# Altium integrated library Linear Technology Power Management System Supervisor, Monitor and Control.IntLib: 1611 symbols (part 68 of 100)
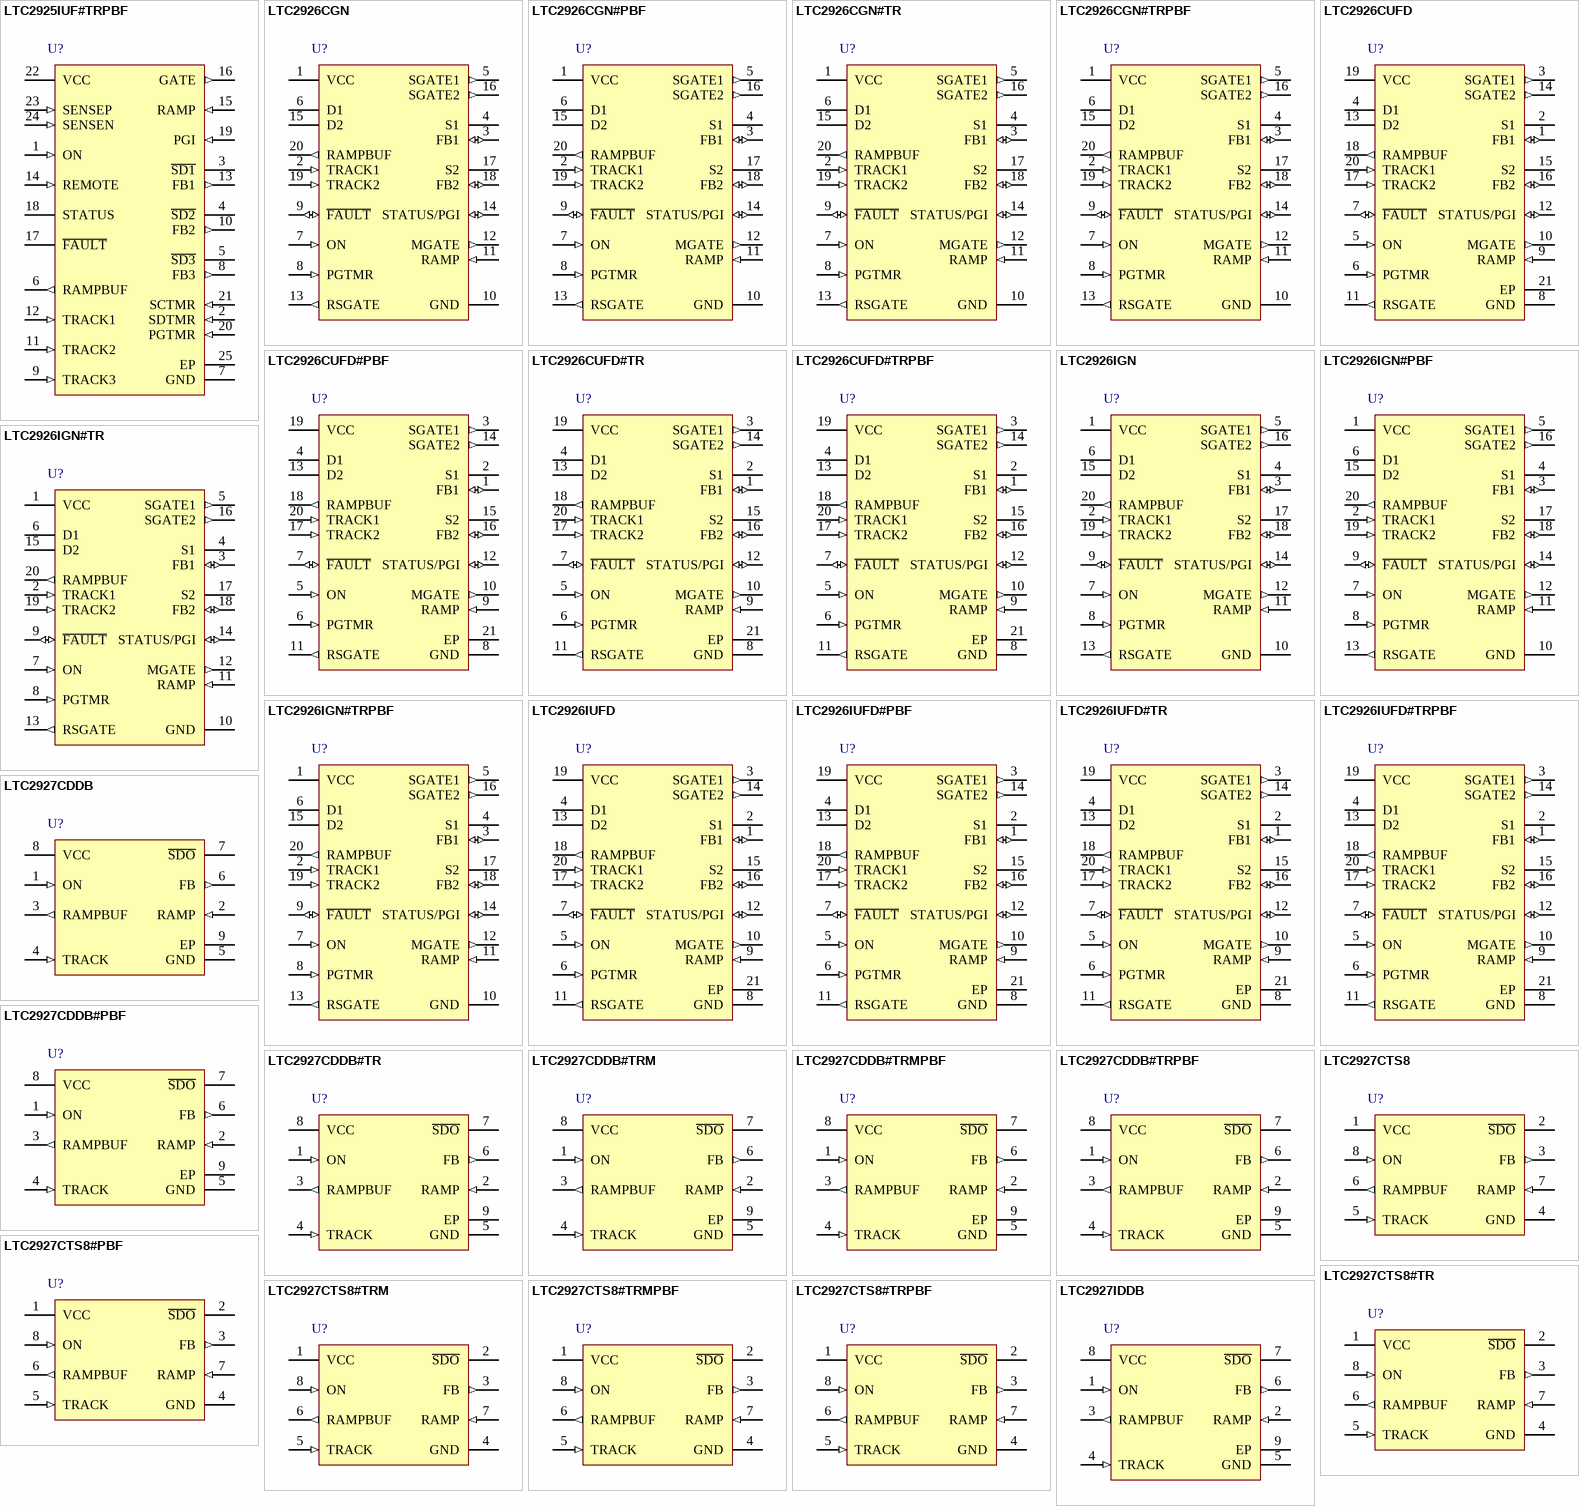
[diagram p112: symbols LTC2925IUF#TRPBF to LTC2927IDDB]

## LTC2926IUFD#TRPBF
designator U?
MOSFET-Controlled Power Supply Tracker, 20-pin QFN (UFD-20), -40 to 85 degC, Pb-Free, Tape and Reel; Manufacturer: Linear Technology; PartNumber: LTC2926IUFD#TRPBF; Number of Supplies(#): 3; DatasheetVersion: Rev. A; PackageVersion: Rev. B, 06/2010; PackageReference: UFD-20; PackageDescription: 20-Pin Plastic QFN, Body 5 x 4 mm, Pitch 0.5 mm; Supplier 1: Digi-Key; Supplier Part Number 1: LTC2926IUFD#TRPBF-ND; Packing: Tape and Reel; RoHS: TRUE; Mounting Technology: Surface Mount; Code_JEDEC: MO-220; ComponentLink1Description: Manufacturer URL; ComponentLink1URL: http://www.linear.com/; ComponentLink2Description: Datasheet; ComponentLink2URL: http://cds.linear.com/docs/en/datasheet/2926fa.pdf; ComponentLink3Description: Package Specification; ComponentLink3URL: http://cds.linear.com/docs/en/packaging/QFN_20_05-08-1711.pdf
footprint LT-UFD-20_N (QFN, 20-Leads, Body 5.1x4.1mm, Pitch 0.5mm, Thermal Pad 2.65x3.65mm, IPC Medium Density)
footprint LT-UFD-20_L (QFN, 20-Leads, Body 5.1x4.1mm, Pitch 0.5mm, Thermal Pad 2.65x3.65mm, IPC High Density)
footprint LT-UFD-20_M (QFN, 20-Leads, Body 5.1x4.1mm, Pitch 0.5mm, Thermal Pad 2.65x3.65mm, IPC Low Density)
pins: 1 FB1 (io) "Feedback Control Input/Outputs. Each FB pin connects to the feedback node of a slave supply. Connect an FB pin to the tap point of a resistive voltage divider between the source (load side) of the external MOSFET and GND. (See Datasheet)", 2 S1 "Remote Sense Switches #1 and #2. A 10ohm (max) switch connects each pair of pins (D1/S1 and D2/S2) after MGATE, SGATE1 and SGATE2 are all fully enhanced (MGATE > RAMP + 4.9V or RAMP > VCC, and SGATE1, SGATE2 > VCC + 4.9V). (See Datasheet)", 3 SGATE1 (out) "Slave Gate Controllers for External N-Channel MOSFETs. Each SGATE pin ramps a slave supply by controlling the gate of an external N-channel MOSFET so that its source terminal follows the tracking profile set by external (See Datasheet)", 4 D1 "Remote Sense Switches #1 and #2. A 10ohm (max) switch connects each pair of pins (D1/S1 and D2/S2) after MGATE, SGATE1 and SGATE2 are all fully enhanced (MGATE > RAMP + 4.9V or RAMP > VCC, and SGATE1, SGATE2 > VCC + 4.9V). (See Datasheet)", 5 ON (in) "On Control Input. The ON pin has a threshold of 1.23V with 75mV of hysteresis. A high causes 10uA to flow out of the MGATE pin, ramping up the supplies. A low causes 10uA to flow into the MGATE pin, ramping down the supplies.(See Datasheet)", 6 PGTMR (in) "Power Good Timer. Connect an external capacitor between PGTMR and GND to set the Power Good Time-Out Delay. When the ON pin is above 1.23V, a 10uA current pulls up PGTMR to VCC, otherwise an internal N-channel MOSFET pulls (See Datasheet)", 7 ~{FAULT} (io) "Negative-Logic Fault Input/Output. Under normal conditions the internal fault latch is not set and an 8.5uA current pulls up F\A\U\L\T\ to a diode drop below VCC. When the voltage at F\A\U\L\T\ is pulled below 0.5V, a fault (See Datasheet)", 8 GND (power) "Device Ground.", 9 RAMP (in) "Ramp Buffer Input. Connect the RAMP pin to the master ramp signal to force the slave supplies to track it. When the RAMP pin is connected to the source of an external N-channel MOSFET, the slave supplies track the MOSFET’(See Datasheet)", 10 MGATE (out) "Master Gate Drive for External N-Channel MOSFET/Master Ramp. When the ON pin is high, an internal 10uA current charges the gate of an external N-channel MOSFET. A capacitor from MGATE to GND sets the master ramp rate. Add a (See Datasheet)", 11 RSGATE (out) "Gate Drive for Internal and External N-Channel MOSFET Remote Sense Switches. A remote sense path between a load and the sense input of its supply generator automatically compensates for voltage drops across the tracking (See Datasheet)", 12 STATUS/PGI (io) "Status Output/Power Good Input. A 10uA current pulls up STATUS/PGI when MGATE, SGATE1 and SGATE2 are fully enhanced, and the remote sense switches are closed, otherwise an internal N-channel MOSFET pulls down STATUS/PGI. If (See Datasheet)", 13 D2 "Remote Sense Switches #1 and #2. A 10ohm (max) switch connects each pair of pins (D1/S1 and D2/S2) after MGATE, SGATE1 and SGATE2 are all fully enhanced (MGATE > RAMP + 4.9V or RAMP > VCC, and SGATE1, SGATE2 > VCC + 4.9V). (See Datasheet)", 14 SGATE2 (out) "Slave Gate Controllers for External N-Channel MOSFETs. Each SGATE pin ramps a slave supply by controlling the gate of an external N-channel MOSFET so that its source terminal follows the tracking profi le set by external (See Datasheet)", 15 S2 "Remote Sense Switches #1 and #2. A 10ohm (max) switch connects each pair of pins (D1/S1 and D2/S2) after MGATE, SGATE1 and SGATE2 are all fully enhanced (MGATE > RAMP + 4.9V or RAMP > VCC, and SGATE1, SGATE2 > VCC + 4.9V). (See Datasheet)", 16 FB2 (io) "Feedback Control Input/Outputs. Each FB pin connects to the feedback node of a slave supply. Connect an FB pin to the tap point of a resistive voltage divider between the source (load side) of the external MOSFET and GND. (See Datasheet)", 17 TRACK2 (in) "Tracking Control Inputs. A resistive voltage divider between RAMPBUF and each TRACK pin determines the tracking profi le of each supply channel. Each TRACK pin pulls up to 0.8V, and the current supplied at TRACK is mirrored (See Datasheet)", 18 RAMPBUF (out) "Ramp Buffer Output. The RAMPBUF pin provides a low impedance buffered version of the signal on the RAMP pin. This buffered output drives the resistive voltage dividers that connect to the TRACK pins. Limit the capacitance at (See Datasheet)", 19 VCC (power) "Positive Voltage Supply. Operating range is from 2.9V to 5.5V. An undervoltage lockout resets the part when the supply is below 2.4V. VCC should be bypassed to GND with a 0.1uF capacitor.", 20 TRACK1 (in) "Tracking Control Inputs. A resistive voltage divider between RAMPBUF and each TRACK pin determines the tracking profi le of each supply channel. Each TRACK pin pulls up to 0.8V, and the current supplied at TRACK is mirrored (See Datasheet)", 21 EP (power) "Exposed pad may be left open or connected to device GND."

## LTC2927CDDB
designator U?
Single Power Supply Tracking Controller, 8-pin SON (DDB-8), 0 to 70 degC; Manufacturer: Linear Technology; PartNumber: LTC2927CDDB; Number of Supplies(#): 1; DatasheetVersion: Rev. B; PackageVersion: Rev. B, 06/2010; PackageReference: DDB-8; PackageDescription: 8-Pin Plastic DFN, Body 3 x 2 mm, Pitch 0.5 mm; RoHS: FALSE; Mounting Technology: Surface Mount; Code_JEDEC: MO-229; ComponentLink1Description: Manufacturer URL; ComponentLink1URL: http://www.linear.com/; ComponentLink2Description: Datasheet; ComponentLink2URL: http://cds.linear.com/docs/en/datasheet/2927fb.pdf; ComponentLink3Description: Package Specification; ComponentLink3URL: http://cds.linear.com/docs/en/packaging/DFN_8_05-08-1702.pdf
footprint LT-DDB-8_V (SON, 8-Leads, Body 3x2mm, Pitch 0.5mm, Thermal Pad 2.2x0.61mm)
pins: 1 ON (in) "On Control Input. The voltage level of the ON pin relative to its 1.23V threshold (with 75mV hysteresis) controls the tracking direction of the LTC2927. An active high causes a 10uA pull-up current to flow at the RAMP pin, (See Datasheet)", 2 RAMP (in) "Ramp Buffer Input. The RAMP pin is the input to the voltage buffer whose output drives a resistive voltage divider connected to the TRACK pin. Connect this input to a capacitor to set the ramp voltage generated from internal (See Datasheet)", 3 RAMPBUF (out) "Ramp Buffer Output. Provides a low impedance buffered version of the signal on the RAMP pin. This buffered output drives the resistive voltage divider that connects to the TRACK pin. Limit the capacitance at the RAMPBUF pin (See Datasheet)", 4 TRACK (in) "Tracking Control Input. A resistive voltage divider between RAMPBUF and TRACK determines the tracking profi le of the slave supply. TRACK servos to 0.8V, and the current supplied at TRACK is mirrored at FB. The TRACK pin is (See Datasheet)", 5 GND (power) "Device Ground.", 6 FB (out) "Feedback Control Output. FB pulls up on the feedback node of the slave supply. Tracking is achieved by mirroring the current from TRACK into FB. A resistive divider connecting RAMPBUF and TRACK will force the output voltage (See Datasheet)", 7 ~{SDO} (oc) "Slave Supply Shutdown Output. S\D\O\ is an open-drain output that holds the shutdown (RUN/SS) pin of the slave supply low until the VCC pin is pulled above 2.5V, and the ON pin is pulled above 1.23V, or RAMP is above 200mV. (See Datasheet)", 8 VCC (power) "Supply Voltage Input. Operating range is from 2.9V to 5.5V. An undervoltage lockout asserts S\D\O\ until VCC > 2.5V. VCC should be bypassed to GND with a 0.1uF capacitor.", 9 EP (power) "Exposed pad may be left open or connected to device ground."

## LTC2927CDDB#PBF
designator U?
Single Power Supply Tracking Controller, 8-pin SON (DDB-8), 0 to 70 degC, Pb-Free; Manufacturer: Linear Technology; PartNumber: LTC2927CDDB#PBF; Number of Supplies(#): 1; DatasheetVersion: Rev. B; PackageVersion: Rev. B, 06/2010; PackageReference: DDB-8; PackageDescription: 8-Pin Plastic DFN, Body 3 x 2 mm, Pitch 0.5 mm; RoHS: TRUE; Mounting Technology: Surface Mount; Code_JEDEC: MO-229; ComponentLink1Description: Manufacturer URL; ComponentLink1URL: http://www.linear.com/; ComponentLink2Description: Datasheet; ComponentLink2URL: http://cds.linear.com/docs/en/datasheet/2927fb.pdf; ComponentLink3Description: Package Specification; ComponentLink3URL: http://cds.linear.com/docs/en/packaging/DFN_8_05-08-1702.pdf
footprint LT-DDB-8_V (SON, 8-Leads, Body 3x2mm, Pitch 0.5mm, Thermal Pad 2.2x0.61mm)
pins: 1 ON (in) "On Control Input. The voltage level of the ON pin relative to its 1.23V threshold (with 75mV hysteresis) controls the tracking direction of the LTC2927. An active high causes a 10uA pull-up current to flow at the RAMP pin, (See Datasheet)", 2 RAMP (in) "Ramp Buffer Input. The RAMP pin is the input to the voltage buffer whose output drives a resistive voltage divider connected to the TRACK pin. Connect this input to a capacitor to set the ramp voltage generated from internal (See Datasheet)", 3 RAMPBUF (out) "Ramp Buffer Output. Provides a low impedance buffered version of the signal on the RAMP pin. This buffered output drives the resistive voltage divider that connects to the TRACK pin. Limit the capacitance at the RAMPBUF pin (See Datasheet)", 4 TRACK (in) "Tracking Control Input. A resistive voltage divider between RAMPBUF and TRACK determines the tracking profi le of the slave supply. TRACK servos to 0.8V, and the current supplied at TRACK is mirrored at FB. The TRACK pin is (See Datasheet)", 5 GND (power) "Device Ground.", 6 FB (out) "Feedback Control Output. FB pulls up on the feedback node of the slave supply. Tracking is achieved by mirroring the current from TRACK into FB. A resistive divider connecting RAMPBUF and TRACK will force the output voltage (See Datasheet)", 7 ~{SDO} (oc) "Slave Supply Shutdown Output. S\D\O\ is an open-drain output that holds the shutdown (RUN/SS) pin of the slave supply low until the VCC pin is pulled above 2.5V, and the ON pin is pulled above 1.23V, or RAMP is above 200mV. (See Datasheet)", 8 VCC (power) "Supply Voltage Input. Operating range is from 2.9V to 5.5V. An undervoltage lockout asserts S\D\O\ until VCC > 2.5V. VCC should be bypassed to GND with a 0.1uF capacitor.", 9 EP (power) "Exposed pad may be left open or connected to device ground."

## LTC2927CDDB#TR
designator U?
Single Power Supply Tracking Controller, 8-pin SON (DDB-8), 0 to 70 degC, Tape and Reel; Manufacturer: Linear Technology; PartNumber: LTC2927CDDB#TR; Number of Supplies(#): 1; DatasheetVersion: Rev. B; PackageVersion: Rev. B, 06/2010; PackageReference: DDB-8; PackageDescription: 8-Pin Plastic DFN, Body 3 x 2 mm, Pitch 0.5 mm; Supplier 1: Digi-Key; Supplier Part Number 1: LTC2927CDDB#TR-ND; Packing: Tape and Reel; RoHS: FALSE; Mounting Technology: Surface Mount; Code_JEDEC: MO-229; ComponentLink1Description: Manufacturer URL; ComponentLink1URL: http://www.linear.com/; ComponentLink2Description: Datasheet; ComponentLink2URL: http://cds.linear.com/docs/en/datasheet/2927fb.pdf; ComponentLink3Description: Package Specification; ComponentLink3URL: http://cds.linear.com/docs/en/packaging/DFN_8_05-08-1702.pdf
footprint LT-DDB-8_V (SON, 8-Leads, Body 3x2mm, Pitch 0.5mm, Thermal Pad 2.2x0.61mm)
pins: 1 ON (in) "On Control Input. The voltage level of the ON pin relative to its 1.23V threshold (with 75mV hysteresis) controls the tracking direction of the LTC2927. An active high causes a 10uA pull-up current to flow at the RAMP pin, (See Datasheet)", 2 RAMP (in) "Ramp Buffer Input. The RAMP pin is the input to the voltage buffer whose output drives a resistive voltage divider connected to the TRACK pin. Connect this input to a capacitor to set the ramp voltage generated from internal (See Datasheet)", 3 RAMPBUF (out) "Ramp Buffer Output. Provides a low impedance buffered version of the signal on the RAMP pin. This buffered output drives the resistive voltage divider that connects to the TRACK pin. Limit the capacitance at the RAMPBUF pin (See Datasheet)", 4 TRACK (in) "Tracking Control Input. A resistive voltage divider between RAMPBUF and TRACK determines the tracking profi le of the slave supply. TRACK servos to 0.8V, and the current supplied at TRACK is mirrored at FB. The TRACK pin is (See Datasheet)", 5 GND (power) "Device Ground.", 6 FB (out) "Feedback Control Output. FB pulls up on the feedback node of the slave supply. Tracking is achieved by mirroring the current from TRACK into FB. A resistive divider connecting RAMPBUF and TRACK will force the output voltage (See Datasheet)", 7 ~{SDO} (oc) "Slave Supply Shutdown Output. S\D\O\ is an open-drain output that holds the shutdown (RUN/SS) pin of the slave supply low until the VCC pin is pulled above 2.5V, and the ON pin is pulled above 1.23V, or RAMP is above 200mV. (See Datasheet)", 8 VCC (power) "Supply Voltage Input. Operating range is from 2.9V to 5.5V. An undervoltage lockout asserts S\D\O\ until VCC > 2.5V. VCC should be bypassed to GND with a 0.1uF capacitor.", 9 EP (power) "Exposed pad may be left open or connected to device ground."

## LTC2927CDDB#TRM
designator U?
Single Power Supply Tracking Controller, 8-pin SON (DDB-8), 0 to 70 degC, Mini Tape and Reel; Manufacturer: Linear Technology; PartNumber: LTC2927CDDB#TRM; Number of Supplies(#): 1; DatasheetVersion: Rev. B; PackageVersion: Rev. B, 06/2010; PackageReference: DDB-8; PackageDescription: 8-Pin Plastic DFN, Body 3 x 2 mm, Pitch 0.5 mm; Supplier 1: Digi-Key; Supplier Part Number 1: LTC2927CDDB#TRM-ND; Packing: Mini Tape and Reel; RoHS: FALSE; Mounting Technology: Surface Mount; Code_JEDEC: MO-229; ComponentLink1Description: Manufacturer URL; ComponentLink1URL: http://www.linear.com/; ComponentLink2Description: Datasheet; ComponentLink2URL: http://cds.linear.com/docs/en/datasheet/2927fb.pdf; ComponentLink3Description: Package Specification; ComponentLink3URL: http://cds.linear.com/docs/en/packaging/DFN_8_05-08-1702.pdf
footprint LT-DDB-8_V (SON, 8-Leads, Body 3x2mm, Pitch 0.5mm, Thermal Pad 2.2x0.61mm)
pins: 1 ON (in) "On Control Input. The voltage level of the ON pin relative to its 1.23V threshold (with 75mV hysteresis) controls the tracking direction of the LTC2927. An active high causes a 10uA pull-up current to flow at the RAMP pin, (See Datasheet)", 2 RAMP (in) "Ramp Buffer Input. The RAMP pin is the input to the voltage buffer whose output drives a resistive voltage divider connected to the TRACK pin. Connect this input to a capacitor to set the ramp voltage generated from internal (See Datasheet)", 3 RAMPBUF (out) "Ramp Buffer Output. Provides a low impedance buffered version of the signal on the RAMP pin. This buffered output drives the resistive voltage divider that connects to the TRACK pin. Limit the capacitance at the RAMPBUF pin (See Datasheet)", 4 TRACK (in) "Tracking Control Input. A resistive voltage divider between RAMPBUF and TRACK determines the tracking profi le of the slave supply. TRACK servos to 0.8V, and the current supplied at TRACK is mirrored at FB. The TRACK pin is (See Datasheet)", 5 GND (power) "Device Ground.", 6 FB (out) "Feedback Control Output. FB pulls up on the feedback node of the slave supply. Tracking is achieved by mirroring the current from TRACK into FB. A resistive divider connecting RAMPBUF and TRACK will force the output voltage (See Datasheet)", 7 ~{SDO} (oc) "Slave Supply Shutdown Output. S\D\O\ is an open-drain output that holds the shutdown (RUN/SS) pin of the slave supply low until the VCC pin is pulled above 2.5V, and the ON pin is pulled above 1.23V, or RAMP is above 200mV. (See Datasheet)", 8 VCC (power) "Supply Voltage Input. Operating range is from 2.9V to 5.5V. An undervoltage lockout asserts S\D\O\ until VCC > 2.5V. VCC should be bypassed to GND with a 0.1uF capacitor.", 9 EP (power) "Exposed pad may be left open or connected to device ground."

## LTC2927CDDB#TRMPBF
designator U?
Single Power Supply Tracking Controller, 8-pin SON (DDB-8), 0 to 70 degC, Pb-Free, Mini Tape and Reel; Manufacturer: Linear Technology; PartNumber: LTC2927CDDB#TRMPBF; Number of Supplies(#): 1; DatasheetVersion: Rev. B; PackageVersion: Rev. B, 06/2010; PackageReference: DDB-8; PackageDescription: 8-Pin Plastic DFN, Body 3 x 2 mm, Pitch 0.5 mm; Supplier 1: Digi-Key; Supplier Part Number 1: LTC2927CDDB#TRMPBFTR-ND; Supplier 2: Digi-Key; Supplier Part Number 2: LTC2927CDDB#TRMPBFCT-ND; Supplier 3: Digi-Key; Supplier Part Number 3: LTC2927CDDB#TRMPBFDKR-ND; Packing: Mini Tape and Reel; RoHS: TRUE; Mounting Technology: Surface Mount; Code_JEDEC: MO-229; ComponentLink1Description: Manufacturer URL; ComponentLink1URL: http://www.linear.com/; ComponentLink2Description: Datasheet; ComponentLink2URL: http://cds.linear.com/docs/en/datasheet/2927fb.pdf; ComponentLink3Description: Package Specification; ComponentLink3URL: http://cds.linear.com/docs/en/packaging/DFN_8_05-08-1702.pdf
footprint LT-DDB-8_V (SON, 8-Leads, Body 3x2mm, Pitch 0.5mm, Thermal Pad 2.2x0.61mm)
pins: 1 ON (in) "On Control Input. The voltage level of the ON pin relative to its 1.23V threshold (with 75mV hysteresis) controls the tracking direction of the LTC2927. An active high causes a 10uA pull-up current to flow at the RAMP pin, (See Datasheet)", 2 RAMP (in) "Ramp Buffer Input. The RAMP pin is the input to the voltage buffer whose output drives a resistive voltage divider connected to the TRACK pin. Connect this input to a capacitor to set the ramp voltage generated from internal (See Datasheet)", 3 RAMPBUF (out) "Ramp Buffer Output. Provides a low impedance buffered version of the signal on the RAMP pin. This buffered output drives the resistive voltage divider that connects to the TRACK pin. Limit the capacitance at the RAMPBUF pin (See Datasheet)", 4 TRACK (in) "Tracking Control Input. A resistive voltage divider between RAMPBUF and TRACK determines the tracking profi le of the slave supply. TRACK servos to 0.8V, and the current supplied at TRACK is mirrored at FB. The TRACK pin is (See Datasheet)", 5 GND (power) "Device Ground.", 6 FB (out) "Feedback Control Output. FB pulls up on the feedback node of the slave supply. Tracking is achieved by mirroring the current from TRACK into FB. A resistive divider connecting RAMPBUF and TRACK will force the output voltage (See Datasheet)", 7 ~{SDO} (oc) "Slave Supply Shutdown Output. S\D\O\ is an open-drain output that holds the shutdown (RUN/SS) pin of the slave supply low until the VCC pin is pulled above 2.5V, and the ON pin is pulled above 1.23V, or RAMP is above 200mV. (See Datasheet)", 8 VCC (power) "Supply Voltage Input. Operating range is from 2.9V to 5.5V. An undervoltage lockout asserts S\D\O\ until VCC > 2.5V. VCC should be bypassed to GND with a 0.1uF capacitor.", 9 EP (power) "Exposed pad may be left open or connected to device ground."

## LTC2927CDDB#TRPBF
designator U?
Single Power Supply Tracking Controller, 8-pin SON (DDB-8), 0 to 70 degC, Pb-Free, Tape and Reel; Manufacturer: Linear Technology; PartNumber: LTC2927CDDB#TRPBF; Number of Supplies(#): 1; DatasheetVersion: Rev. B; PackageVersion: Rev. B, 06/2010; PackageReference: DDB-8; PackageDescription: 8-Pin Plastic DFN, Body 3 x 2 mm, Pitch 0.5 mm; Supplier 1: Digi-Key; Supplier Part Number 1: LTC2927CDDB#TRPBF-ND; Packing: Tape and Reel; RoHS: TRUE; Mounting Technology: Surface Mount; Code_JEDEC: MO-229; ComponentLink1Description: Manufacturer URL; ComponentLink1URL: http://www.linear.com/; ComponentLink2Description: Datasheet; ComponentLink2URL: http://cds.linear.com/docs/en/datasheet/2927fb.pdf; ComponentLink3Description: Package Specification; ComponentLink3URL: http://cds.linear.com/docs/en/packaging/DFN_8_05-08-1702.pdf
footprint LT-DDB-8_V (SON, 8-Leads, Body 3x2mm, Pitch 0.5mm, Thermal Pad 2.2x0.61mm)
pins: 1 ON (in) "On Control Input. The voltage level of the ON pin relative to its 1.23V threshold (with 75mV hysteresis) controls the tracking direction of the LTC2927. An active high causes a 10uA pull-up current to flow at the RAMP pin, (See Datasheet)", 2 RAMP (in) "Ramp Buffer Input. The RAMP pin is the input to the voltage buffer whose output drives a resistive voltage divider connected to the TRACK pin. Connect this input to a capacitor to set the ramp voltage generated from internal (See Datasheet)", 3 RAMPBUF (out) "Ramp Buffer Output. Provides a low impedance buffered version of the signal on the RAMP pin. This buffered output drives the resistive voltage divider that connects to the TRACK pin. Limit the capacitance at the RAMPBUF pin (See Datasheet)", 4 TRACK (in) "Tracking Control Input. A resistive voltage divider between RAMPBUF and TRACK determines the tracking profi le of the slave supply. TRACK servos to 0.8V, and the current supplied at TRACK is mirrored at FB. The TRACK pin is (See Datasheet)", 5 GND (power) "Device Ground.", 6 FB (out) "Feedback Control Output. FB pulls up on the feedback node of the slave supply. Tracking is achieved by mirroring the current from TRACK into FB. A resistive divider connecting RAMPBUF and TRACK will force the output voltage (See Datasheet)", 7 ~{SDO} (oc) "Slave Supply Shutdown Output. S\D\O\ is an open-drain output that holds the shutdown (RUN/SS) pin of the slave supply low until the VCC pin is pulled above 2.5V, and the ON pin is pulled above 1.23V, or RAMP is above 200mV. (See Datasheet)", 8 VCC (power) "Supply Voltage Input. Operating range is from 2.9V to 5.5V. An undervoltage lockout asserts S\D\O\ until VCC > 2.5V. VCC should be bypassed to GND with a 0.1uF capacitor.", 9 EP (power) "Exposed pad may be left open or connected to device ground."

## LTC2927CTS8
designator U?
Single Power Supply Tracking Controller, 8-pin SOT23 (TS8-8), 0 to 70 degC; Manufacturer: Linear Technology; PartNumber: LTC2927CTS8; Number of Supplies(#): 1; DatasheetVersion: Rev. B; PackageVersion: Rev. A, 08/2010; PackageReference: TS8-8; PackageDescription: 8-Pin Plastic TSOT-23, Body 2.9 x 1.63 mm, Pitch 0.65 mm; RoHS: FALSE; Mounting Technology: Surface Mount; Code_JEDEC: MO-193; ComponentLink1Description: Manufacturer URL; ComponentLink1URL: http://www.linear.com/; ComponentLink2Description: Datasheet; ComponentLink2URL: http://cds.linear.com/docs/en/datasheet/2927fb.pdf; ComponentLink3Description: Package Specification; ComponentLink3URL: http://cds.linear.com/docs/en/packaging/SOT_8_05-08-1637.pdf
footprint LT-TS8-8-TSOT-23_V (SOT23, 8-Leads, Body 2.9x1.75mm, Pitch 0.65mm)
pins: 1 VCC (power) "Supply Voltage Input. Operating range is from 2.9V to 5.5V. An undervoltage lockout asserts S\D\O\ until VCC > 2.5V. VCC should be bypassed to GND with a 0.1uF capacitor.", 2 ~{SDO} (oc) "Slave Supply Shutdown Output. S\D\O\ is an open-drain output that holds the shutdown (RUN/SS) pin of the slave supply low until the VCC pin is pulled above 2.5V, and the ON pin is pulled above 1.23V, or RAMP is above 200mV. (See Datasheet)", 3 FB (out) "Feedback Control Output. FB pulls up on the feedback node of the slave supply. Tracking is achieved by mirroring the current from TRACK into FB. A resistive divider connecting RAMPBUF and TRACK will force the output voltage (See Datasheet)", 4 GND (power) "Device Ground.", 5 TRACK (in) "Tracking Control Input. A resistive voltage divider between RAMPBUF and TRACK determines the tracking profi le of the slave supply. TRACK servos to 0.8V, and the current supplied at TRACK is mirrored at FB. The TRACK pin is (See Datasheet)", 6 RAMPBUF (out) "Ramp Buffer Output. Provides a low impedance buffered version of the signal on the RAMP pin. This buffered output drives the resistive voltage divider that connects to the TRACK pin. Limit the capacitance at the RAMPBUF pin (See Datasheet)", 7 RAMP (in) "Ramp Buffer Input. The RAMP pin is the input to the voltage buffer whose output drives a resistive voltage divider connected to the TRACK pin. Connect this input to a capacitor to set the ramp voltage generated from internal (See Datasheet)", 8 ON (in) "On Control Input. The voltage level of the ON pin relative to its 1.23V threshold (with 75mV hysteresis) controls the tracking direction of the LTC2927. An active high causes a 10uA pull-up current to flow at the RAMP pin, (See Datasheet)"

## LTC2927CTS8#PBF
designator U?
Single Power Supply Tracking Controller, 8-pin SOT23 (TS8-8), 0 to 70 degC, Pb-Free; Manufacturer: Linear Technology; PartNumber: LTC2927CTS8#PBF; Number of Supplies(#): 1; DatasheetVersion: Rev. B; PackageVersion: Rev. A, 08/2010; PackageReference: TS8-8; PackageDescription: 8-Pin Plastic TSOT-23, Body 2.9 x 1.63 mm, Pitch 0.65 mm; Supplier 1: Newark; Supplier Part Number 1: 78T3083; RoHS: TRUE; Mounting Technology: Surface Mount; Code_JEDEC: MO-193; ComponentLink1Description: Manufacturer URL; ComponentLink1URL: http://www.linear.com/; ComponentLink2Description: Datasheet; ComponentLink2URL: http://cds.linear.com/docs/en/datasheet/2927fb.pdf; ComponentLink3Description: Package Specification; ComponentLink3URL: http://cds.linear.com/docs/en/packaging/SOT_8_05-08-1637.pdf
footprint LT-TS8-8-TSOT-23_V (SOT23, 8-Leads, Body 2.9x1.75mm, Pitch 0.65mm)
pins: 1 VCC (power) "Supply Voltage Input. Operating range is from 2.9V to 5.5V. An undervoltage lockout asserts S\D\O\ until VCC > 2.5V. VCC should be bypassed to GND with a 0.1uF capacitor.", 2 ~{SDO} (oc) "Slave Supply Shutdown Output. S\D\O\ is an open-drain output that holds the shutdown (RUN/SS) pin of the slave supply low until the VCC pin is pulled above 2.5V, and the ON pin is pulled above 1.23V, or RAMP is above 200mV. (See Datasheet)", 3 FB (out) "Feedback Control Output. FB pulls up on the feedback node of the slave supply. Tracking is achieved by mirroring the current from TRACK into FB. A resistive divider connecting RAMPBUF and TRACK will force the output voltage (See Datasheet)", 4 GND (power) "Device Ground.", 5 TRACK (in) "Tracking Control Input. A resistive voltage divider between RAMPBUF and TRACK determines the tracking profi le of the slave supply. TRACK servos to 0.8V, and the current supplied at TRACK is mirrored at FB. The TRACK pin is (See Datasheet)", 6 RAMPBUF (out) "Ramp Buffer Output. Provides a low impedance buffered version of the signal on the RAMP pin. This buffered output drives the resistive voltage divider that connects to the TRACK pin. Limit the capacitance at the RAMPBUF pin (See Datasheet)", 7 RAMP (in) "Ramp Buffer Input. The RAMP pin is the input to the voltage buffer whose output drives a resistive voltage divider connected to the TRACK pin. Connect this input to a capacitor to set the ramp voltage generated from internal (See Datasheet)", 8 ON (in) "On Control Input. The voltage level of the ON pin relative to its 1.23V threshold (with 75mV hysteresis) controls the tracking direction of the LTC2927. An active high causes a 10uA pull-up current to flow at the RAMP pin, (See Datasheet)"

## LTC2927CTS8#TR
designator U?
Single Power Supply Tracking Controller, 8-pin SOT23 (TS8-8), 0 to 70 degC, Tape and Reel; Manufacturer: Linear Technology; PartNumber: LTC2927CTS8#TR; Number of Supplies(#): 1; DatasheetVersion: Rev. B; PackageVersion: Rev. A, 08/2010; PackageReference: TS8-8; PackageDescription: 8-Pin Plastic TSOT-23, Body 2.9 x 1.63 mm, Pitch 0.65 mm; Supplier 1: Digi-Key; Supplier Part Number 1: LTC2927CTS8#TR-ND; Packing: Tape and Reel; RoHS: FALSE; Mounting Technology: Surface Mount; Code_JEDEC: MO-193; ComponentLink1Description: Manufacturer URL; ComponentLink1URL: http://www.linear.com/; ComponentLink2Description: Datasheet; ComponentLink2URL: http://cds.linear.com/docs/en/datasheet/2927fb.pdf; ComponentLink3Description: Package Specification; ComponentLink3URL: http://cds.linear.com/docs/en/packaging/SOT_8_05-08-1637.pdf
footprint LT-TS8-8-TSOT-23_V (SOT23, 8-Leads, Body 2.9x1.75mm, Pitch 0.65mm)
pins: 1 VCC (power) "Supply Voltage Input. Operating range is from 2.9V to 5.5V. An undervoltage lockout asserts S\D\O\ until VCC > 2.5V. VCC should be bypassed to GND with a 0.1uF capacitor.", 2 ~{SDO} (oc) "Slave Supply Shutdown Output. S\D\O\ is an open-drain output that holds the shutdown (RUN/SS) pin of the slave supply low until the VCC pin is pulled above 2.5V, and the ON pin is pulled above 1.23V, or RAMP is above 200mV. (See Datasheet)", 3 FB (out) "Feedback Control Output. FB pulls up on the feedback node of the slave supply. Tracking is achieved by mirroring the current from TRACK into FB. A resistive divider connecting RAMPBUF and TRACK will force the output voltage (See Datasheet)", 4 GND (power) "Device Ground.", 5 TRACK (in) "Tracking Control Input. A resistive voltage divider between RAMPBUF and TRACK determines the tracking profi le of the slave supply. TRACK servos to 0.8V, and the current supplied at TRACK is mirrored at FB. The TRACK pin is (See Datasheet)", 6 RAMPBUF (out) "Ramp Buffer Output. Provides a low impedance buffered version of the signal on the RAMP pin. This buffered output drives the resistive voltage divider that connects to the TRACK pin. Limit the capacitance at the RAMPBUF pin (See Datasheet)", 7 RAMP (in) "Ramp Buffer Input. The RAMP pin is the input to the voltage buffer whose output drives a resistive voltage divider connected to the TRACK pin. Connect this input to a capacitor to set the ramp voltage generated from internal (See Datasheet)", 8 ON (in) "On Control Input. The voltage level of the ON pin relative to its 1.23V threshold (with 75mV hysteresis) controls the tracking direction of the LTC2927. An active high causes a 10uA pull-up current to flow at the RAMP pin, (See Datasheet)"

## LTC2927CTS8#TRM
designator U?
Single Power Supply Tracking Controller, 8-pin SOT23 (TS8-8), 0 to 70 degC, Mini Tape and Reel; Manufacturer: Linear Technology; PartNumber: LTC2927CTS8#TRM; Number of Supplies(#): 1; DatasheetVersion: Rev. B; PackageVersion: Rev. A, 08/2010; PackageReference: TS8-8; PackageDescription: 8-Pin Plastic TSOT-23, Body 2.9 x 1.63 mm, Pitch 0.65 mm; Supplier 1: Digi-Key; Supplier Part Number 1: LTC2927CTS8#TRM-ND; Packing: Mini Tape and Reel; RoHS: FALSE; Mounting Technology: Surface Mount; Code_JEDEC: MO-193; ComponentLink1Description: Manufacturer URL; ComponentLink1URL: http://www.linear.com/; ComponentLink2Description: Datasheet; ComponentLink2URL: http://cds.linear.com/docs/en/datasheet/2927fb.pdf; ComponentLink3Description: Package Specification; ComponentLink3URL: http://cds.linear.com/docs/en/packaging/SOT_8_05-08-1637.pdf
footprint LT-TS8-8-TSOT-23_V (SOT23, 8-Leads, Body 2.9x1.75mm, Pitch 0.65mm)
pins: 1 VCC (power) "Supply Voltage Input. Operating range is from 2.9V to 5.5V. An undervoltage lockout asserts S\D\O\ until VCC > 2.5V. VCC should be bypassed to GND with a 0.1uF capacitor.", 2 ~{SDO} (oc) "Slave Supply Shutdown Output. S\D\O\ is an open-drain output that holds the shutdown (RUN/SS) pin of the slave supply low until the VCC pin is pulled above 2.5V, and the ON pin is pulled above 1.23V, or RAMP is above 200mV. (See Datasheet)", 3 FB (out) "Feedback Control Output. FB pulls up on the feedback node of the slave supply. Tracking is achieved by mirroring the current from TRACK into FB. A resistive divider connecting RAMPBUF and TRACK will force the output voltage (See Datasheet)", 4 GND (power) "Device Ground.", 5 TRACK (in) "Tracking Control Input. A resistive voltage divider between RAMPBUF and TRACK determines the tracking profi le of the slave supply. TRACK servos to 0.8V, and the current supplied at TRACK is mirrored at FB. The TRACK pin is (See Datasheet)", 6 RAMPBUF (out) "Ramp Buffer Output. Provides a low impedance buffered version of the signal on the RAMP pin. This buffered output drives the resistive voltage divider that connects to the TRACK pin. Limit the capacitance at the RAMPBUF pin (See Datasheet)", 7 RAMP (in) "Ramp Buffer Input. The RAMP pin is the input to the voltage buffer whose output drives a resistive voltage divider connected to the TRACK pin. Connect this input to a capacitor to set the ramp voltage generated from internal (See Datasheet)", 8 ON (in) "On Control Input. The voltage level of the ON pin relative to its 1.23V threshold (with 75mV hysteresis) controls the tracking direction of the LTC2927. An active high causes a 10uA pull-up current to flow at the RAMP pin, (See Datasheet)"

## LTC2927CTS8#TRMPBF
designator U?
Single Power Supply Tracking Controller, 8-pin SOT23 (TS8-8), 0 to 70 degC, Pb-Free, Mini Tape and Reel; Manufacturer: Linear Technology; PartNumber: LTC2927CTS8#TRMPBF; Number of Supplies(#): 1; DatasheetVersion: Rev. B; PackageVersion: Rev. A, 08/2010; PackageReference: TS8-8; PackageDescription: 8-Pin Plastic TSOT-23, Body 2.9 x 1.63 mm, Pitch 0.65 mm; Supplier 1: Digi-Key; Supplier Part Number 1: LTC2927CTS8#TRMPBFTR-ND; Supplier 2: Digi-Key; Supplier Part Number 2: LTC2927CTS8#TRMPBFCT-ND; Supplier 3: Digi-Key; Supplier Part Number 3: LTC2927CTS8#TRMPBFDKR-ND; Supplier 4: Farnell; Supplier Part Number 4: 1663885; Packing: Mini Tape and Reel; RoHS: TRUE; Mounting Technology: Surface Mount; Code_JEDEC: MO-193; ComponentLink1Description: Manufacturer URL; ComponentLink1URL: http://www.linear.com/; ComponentLink2Description: Datasheet; ComponentLink2URL: http://cds.linear.com/docs/en/datasheet/2927fb.pdf; ComponentLink3Description: Package Specification; ComponentLink3URL: http://cds.linear.com/docs/en/packaging/SOT_8_05-08-1637.pdf
footprint LT-TS8-8-TSOT-23_V (SOT23, 8-Leads, Body 2.9x1.75mm, Pitch 0.65mm)
pins: 1 VCC (power) "Supply Voltage Input. Operating range is from 2.9V to 5.5V. An undervoltage lockout asserts S\D\O\ until VCC > 2.5V. VCC should be bypassed to GND with a 0.1uF capacitor.", 2 ~{SDO} (oc) "Slave Supply Shutdown Output. S\D\O\ is an open-drain output that holds the shutdown (RUN/SS) pin of the slave supply low until the VCC pin is pulled above 2.5V, and the ON pin is pulled above 1.23V, or RAMP is above 200mV. (See Datasheet)", 3 FB (out) "Feedback Control Output. FB pulls up on the feedback node of the slave supply. Tracking is achieved by mirroring the current from TRACK into FB. A resistive divider connecting RAMPBUF and TRACK will force the output voltage (See Datasheet)", 4 GND (power) "Device Ground.", 5 TRACK (in) "Tracking Control Input. A resistive voltage divider between RAMPBUF and TRACK determines the tracking profi le of the slave supply. TRACK servos to 0.8V, and the current supplied at TRACK is mirrored at FB. The TRACK pin is (See Datasheet)", 6 RAMPBUF (out) "Ramp Buffer Output. Provides a low impedance buffered version of the signal on the RAMP pin. This buffered output drives the resistive voltage divider that connects to the TRACK pin. Limit the capacitance at the RAMPBUF pin (See Datasheet)", 7 RAMP (in) "Ramp Buffer Input. The RAMP pin is the input to the voltage buffer whose output drives a resistive voltage divider connected to the TRACK pin. Connect this input to a capacitor to set the ramp voltage generated from internal (See Datasheet)", 8 ON (in) "On Control Input. The voltage level of the ON pin relative to its 1.23V threshold (with 75mV hysteresis) controls the tracking direction of the LTC2927. An active high causes a 10uA pull-up current to flow at the RAMP pin, (See Datasheet)"

## LTC2927CTS8#TRPBF
designator U?
Single Power Supply Tracking Controller, 8-pin SOT23 (TS8-8), 0 to 70 degC, Pb-Free, Tape and Reel; Manufacturer: Linear Technology; PartNumber: LTC2927CTS8#TRPBF; Number of Supplies(#): 1; DatasheetVersion: Rev. B; PackageVersion: Rev. A, 08/2010; PackageReference: TS8-8; PackageDescription: 8-Pin Plastic TSOT-23, Body 2.9 x 1.63 mm, Pitch 0.65 mm; Supplier 1: Digi-Key; Supplier Part Number 1: LTC2927CTS8#TRPBF-ND; Supplier 2: Newark; Supplier Part Number 2: 56M7144; Packing: Tape and Reel; RoHS: TRUE; Mounting Technology: Surface Mount; Code_JEDEC: MO-193; ComponentLink1Description: Manufacturer URL; ComponentLink1URL: http://www.linear.com/; ComponentLink2Description: Datasheet; ComponentLink2URL: http://cds.linear.com/docs/en/datasheet/2927fb.pdf; ComponentLink3Description: Package Specification; ComponentLink3URL: http://cds.linear.com/docs/en/packaging/SOT_8_05-08-1637.pdf
footprint LT-TS8-8-TSOT-23_V (SOT23, 8-Leads, Body 2.9x1.75mm, Pitch 0.65mm)
pins: 1 VCC (power) "Supply Voltage Input. Operating range is from 2.9V to 5.5V. An undervoltage lockout asserts S\D\O\ until VCC > 2.5V. VCC should be bypassed to GND with a 0.1uF capacitor.", 2 ~{SDO} (oc) "Slave Supply Shutdown Output. S\D\O\ is an open-drain output that holds the shutdown (RUN/SS) pin of the slave supply low until the VCC pin is pulled above 2.5V, and the ON pin is pulled above 1.23V, or RAMP is above 200mV. (See Datasheet)", 3 FB (out) "Feedback Control Output. FB pulls up on the feedback node of the slave supply. Tracking is achieved by mirroring the current from TRACK into FB. A resistive divider connecting RAMPBUF and TRACK will force the output voltage (See Datasheet)", 4 GND (power) "Device Ground.", 5 TRACK (in) "Tracking Control Input. A resistive voltage divider between RAMPBUF and TRACK determines the tracking profi le of the slave supply. TRACK servos to 0.8V, and the current supplied at TRACK is mirrored at FB. The TRACK pin is (See Datasheet)", 6 RAMPBUF (out) "Ramp Buffer Output. Provides a low impedance buffered version of the signal on the RAMP pin. This buffered output drives the resistive voltage divider that connects to the TRACK pin. Limit the capacitance at the RAMPBUF pin (See Datasheet)", 7 RAMP (in) "Ramp Buffer Input. The RAMP pin is the input to the voltage buffer whose output drives a resistive voltage divider connected to the TRACK pin. Connect this input to a capacitor to set the ramp voltage generated from internal (See Datasheet)", 8 ON (in) "On Control Input. The voltage level of the ON pin relative to its 1.23V threshold (with 75mV hysteresis) controls the tracking direction of the LTC2927. An active high causes a 10uA pull-up current to flow at the RAMP pin, (See Datasheet)"

## LTC2927IDDB
designator U?
Single Power Supply Tracking Controller, 8-pin SON (DDB-8), -40 to 85 degC; Manufacturer: Linear Technology; PartNumber: LTC2927IDDB; Number of Supplies(#): 1; DatasheetVersion: Rev. B; PackageVersion: Rev. B, 06/2010; PackageReference: DDB-8; PackageDescription: 8-Pin Plastic DFN, Body 3 x 2 mm, Pitch 0.5 mm; RoHS: FALSE; Mounting Technology: Surface Mount; Code_JEDEC: MO-229; ComponentLink1Description: Manufacturer URL; ComponentLink1URL: http://www.linear.com/; ComponentLink2Description: Datasheet; ComponentLink2URL: http://cds.linear.com/docs/en/datasheet/2927fb.pdf; ComponentLink3Description: Package Specification; ComponentLink3URL: http://cds.linear.com/docs/en/packaging/DFN_8_05-08-1702.pdf
footprint LT-DDB-8_V (SON, 8-Leads, Body 3x2mm, Pitch 0.5mm, Thermal Pad 2.2x0.61mm)
pins: 1 ON (in) "On Control Input. The voltage level of the ON pin relative to its 1.23V threshold (with 75mV hysteresis) controls the tracking direction of the LTC2927. An active high causes a 10uA pull-up current to flow at the RAMP pin, (See Datasheet)", 2 RAMP (in) "Ramp Buffer Input. The RAMP pin is the input to the voltage buffer whose output drives a resistive voltage divider connected to the TRACK pin. Connect this input to a capacitor to set the ramp voltage generated from internal (See Datasheet)", 3 RAMPBUF (out) "Ramp Buffer Output. Provides a low impedance buffered version of the signal on the RAMP pin. This buffered output drives the resistive voltage divider that connects to the TRACK pin. Limit the capacitance at the RAMPBUF pin (See Datasheet)", 4 TRACK (in) "Tracking Control Input. A resistive voltage divider between RAMPBUF and TRACK determines the tracking profi le of the slave supply. TRACK servos to 0.8V, and the current supplied at TRACK is mirrored at FB. The TRACK pin is (See Datasheet)", 5 GND (power) "Device Ground.", 6 FB (out) "Feedback Control Output. FB pulls up on the feedback node of the slave supply. Tracking is achieved by mirroring the current from TRACK into FB. A resistive divider connecting RAMPBUF and TRACK will force the output voltage (See Datasheet)", 7 ~{SDO} (oc) "Slave Supply Shutdown Output. S\D\O\ is an open-drain output that holds the shutdown (RUN/SS) pin of the slave supply low until the VCC pin is pulled above 2.5V, and the ON pin is pulled above 1.23V, or RAMP is above 200mV. (See Datasheet)", 8 VCC (power) "Supply Voltage Input. Operating range is from 2.9V to 5.5V. An undervoltage lockout asserts S\D\O\ until VCC > 2.5V. VCC should be bypassed to GND with a 0.1uF capacitor.", 9 EP (power) "Exposed pad may be left open or connected to device ground."

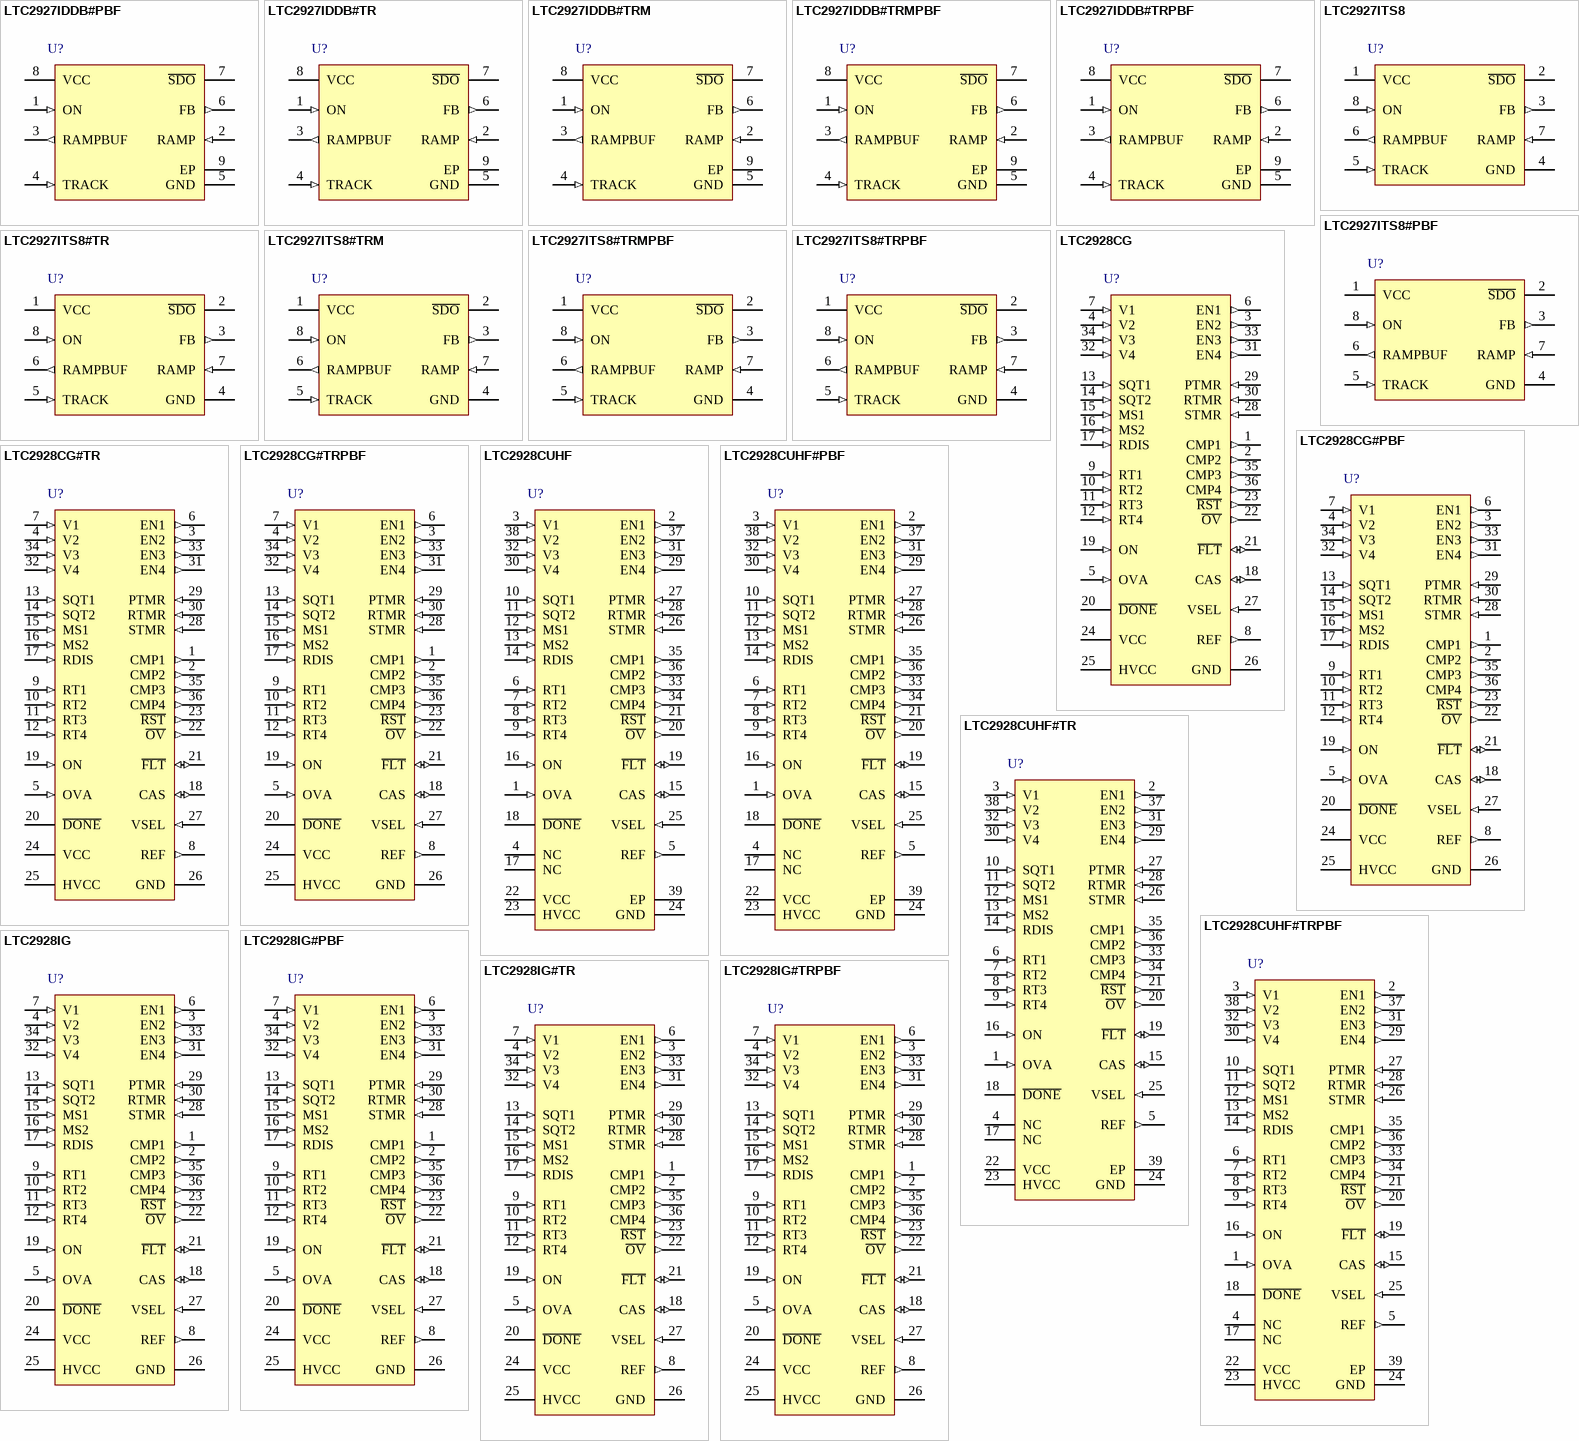
[diagram p31: symbols LTC2927IDDB#PBF to LTC2928IG#TRPBF]

## LTC2927IDDB#PBF
designator U?
Single Power Supply Tracking Controller, 8-pin SON (DDB-8), -40 to 85 degC, Pb-Free; Manufacturer: Linear Technology; PartNumber: LTC2927IDDB#PBF; Number of Supplies(#): 1; DatasheetVersion: Rev. B; PackageVersion: Rev. B, 06/2010; PackageReference: DDB-8; PackageDescription: 8-Pin Plastic DFN, Body 3 x 2 mm, Pitch 0.5 mm; RoHS: TRUE; Mounting Technology: Surface Mount; Code_JEDEC: MO-229; ComponentLink1Description: Manufacturer URL; ComponentLink1URL: http://www.linear.com/; ComponentLink2Description: Datasheet; ComponentLink2URL: http://cds.linear.com/docs/en/datasheet/2927fb.pdf; ComponentLink3Description: Package Specification; ComponentLink3URL: http://cds.linear.com/docs/en/packaging/DFN_8_05-08-1702.pdf
footprint LT-DDB-8_V (SON, 8-Leads, Body 3x2mm, Pitch 0.5mm, Thermal Pad 2.2x0.61mm)
pins: 1 ON (in) "On Control Input. The voltage level of the ON pin relative to its 1.23V threshold (with 75mV hysteresis) controls the tracking direction of the LTC2927. An active high causes a 10uA pull-up current to flow at the RAMP pin, (See Datasheet)", 2 RAMP (in) "Ramp Buffer Input. The RAMP pin is the input to the voltage buffer whose output drives a resistive voltage divider connected to the TRACK pin. Connect this input to a capacitor to set the ramp voltage generated from internal (See Datasheet)", 3 RAMPBUF (out) "Ramp Buffer Output. Provides a low impedance buffered version of the signal on the RAMP pin. This buffered output drives the resistive voltage divider that connects to the TRACK pin. Limit the capacitance at the RAMPBUF pin (See Datasheet)", 4 TRACK (in) "Tracking Control Input. A resistive voltage divider between RAMPBUF and TRACK determines the tracking profi le of the slave supply. TRACK servos to 0.8V, and the current supplied at TRACK is mirrored at FB. The TRACK pin is (See Datasheet)", 5 GND (power) "Device Ground.", 6 FB (out) "Feedback Control Output. FB pulls up on the feedback node of the slave supply. Tracking is achieved by mirroring the current from TRACK into FB. A resistive divider connecting RAMPBUF and TRACK will force the output voltage (See Datasheet)", 7 ~{SDO} (oc) "Slave Supply Shutdown Output. S\D\O\ is an open-drain output that holds the shutdown (RUN/SS) pin of the slave supply low until the VCC pin is pulled above 2.5V, and the ON pin is pulled above 1.23V, or RAMP is above 200mV. (See Datasheet)", 8 VCC (power) "Supply Voltage Input. Operating range is from 2.9V to 5.5V. An undervoltage lockout asserts S\D\O\ until VCC > 2.5V. VCC should be bypassed to GND with a 0.1uF capacitor.", 9 EP (power) "Exposed pad may be left open or connected to device ground."

## LTC2927IDDB#TR
designator U?
Single Power Supply Tracking Controller, 8-pin SON (DDB-8), -40 to 85 degC, Tape and Reel; Manufacturer: Linear Technology; PartNumber: LTC2927IDDB#TR; Number of Supplies(#): 1; DatasheetVersion: Rev. B; PackageVersion: Rev. B, 06/2010; PackageReference: DDB-8; PackageDescription: 8-Pin Plastic DFN, Body 3 x 2 mm, Pitch 0.5 mm; Supplier 1: Digi-Key; Supplier Part Number 1: LTC2927IDDB#TR-ND; Packing: Tape and Reel; RoHS: FALSE; Mounting Technology: Surface Mount; Code_JEDEC: MO-229; ComponentLink1Description: Manufacturer URL; ComponentLink1URL: http://www.linear.com/; ComponentLink2Description: Datasheet; ComponentLink2URL: http://cds.linear.com/docs/en/datasheet/2927fb.pdf; ComponentLink3Description: Package Specification; ComponentLink3URL: http://cds.linear.com/docs/en/packaging/DFN_8_05-08-1702.pdf
footprint LT-DDB-8_V (SON, 8-Leads, Body 3x2mm, Pitch 0.5mm, Thermal Pad 2.2x0.61mm)
pins: 1 ON (in) "On Control Input. The voltage level of the ON pin relative to its 1.23V threshold (with 75mV hysteresis) controls the tracking direction of the LTC2927. An active high causes a 10uA pull-up current to flow at the RAMP pin, (See Datasheet)", 2 RAMP (in) "Ramp Buffer Input. The RAMP pin is the input to the voltage buffer whose output drives a resistive voltage divider connected to the TRACK pin. Connect this input to a capacitor to set the ramp voltage generated from internal (See Datasheet)", 3 RAMPBUF (out) "Ramp Buffer Output. Provides a low impedance buffered version of the signal on the RAMP pin. This buffered output drives the resistive voltage divider that connects to the TRACK pin. Limit the capacitance at the RAMPBUF pin (See Datasheet)", 4 TRACK (in) "Tracking Control Input. A resistive voltage divider between RAMPBUF and TRACK determines the tracking profi le of the slave supply. TRACK servos to 0.8V, and the current supplied at TRACK is mirrored at FB. The TRACK pin is (See Datasheet)", 5 GND (power) "Device Ground.", 6 FB (out) "Feedback Control Output. FB pulls up on the feedback node of the slave supply. Tracking is achieved by mirroring the current from TRACK into FB. A resistive divider connecting RAMPBUF and TRACK will force the output voltage (See Datasheet)", 7 ~{SDO} (oc) "Slave Supply Shutdown Output. S\D\O\ is an open-drain output that holds the shutdown (RUN/SS) pin of the slave supply low until the VCC pin is pulled above 2.5V, and the ON pin is pulled above 1.23V, or RAMP is above 200mV. (See Datasheet)", 8 VCC (power) "Supply Voltage Input. Operating range is from 2.9V to 5.5V. An undervoltage lockout asserts S\D\O\ until VCC > 2.5V. VCC should be bypassed to GND with a 0.1uF capacitor.", 9 EP (power) "Exposed pad may be left open or connected to device ground."

## LTC2927IDDB#TRM
designator U?
Single Power Supply Tracking Controller, 8-pin SON (DDB-8), -40 to 85 degC, Mini Tape and Reel; Manufacturer: Linear Technology; PartNumber: LTC2927IDDB#TRM; Number of Supplies(#): 1; DatasheetVersion: Rev. B; PackageVersion: Rev. B, 06/2010; PackageReference: DDB-8; PackageDescription: 8-Pin Plastic DFN, Body 3 x 2 mm, Pitch 0.5 mm; Supplier 1: Digi-Key; Supplier Part Number 1: LTC2927IDDB#TRM-ND; Packing: Mini Tape and Reel; RoHS: FALSE; Mounting Technology: Surface Mount; Code_JEDEC: MO-229; ComponentLink1Description: Manufacturer URL; ComponentLink1URL: http://www.linear.com/; ComponentLink2Description: Datasheet; ComponentLink2URL: http://cds.linear.com/docs/en/datasheet/2927fb.pdf; ComponentLink3Description: Package Specification; ComponentLink3URL: http://cds.linear.com/docs/en/packaging/DFN_8_05-08-1702.pdf
footprint LT-DDB-8_V (SON, 8-Leads, Body 3x2mm, Pitch 0.5mm, Thermal Pad 2.2x0.61mm)
pins: 1 ON (in) "On Control Input. The voltage level of the ON pin relative to its 1.23V threshold (with 75mV hysteresis) controls the tracking direction of the LTC2927. An active high causes a 10uA pull-up current to flow at the RAMP pin, (See Datasheet)", 2 RAMP (in) "Ramp Buffer Input. The RAMP pin is the input to the voltage buffer whose output drives a resistive voltage divider connected to the TRACK pin. Connect this input to a capacitor to set the ramp voltage generated from internal (See Datasheet)", 3 RAMPBUF (out) "Ramp Buffer Output. Provides a low impedance buffered version of the signal on the RAMP pin. This buffered output drives the resistive voltage divider that connects to the TRACK pin. Limit the capacitance at the RAMPBUF pin (See Datasheet)", 4 TRACK (in) "Tracking Control Input. A resistive voltage divider between RAMPBUF and TRACK determines the tracking profi le of the slave supply. TRACK servos to 0.8V, and the current supplied at TRACK is mirrored at FB. The TRACK pin is (See Datasheet)", 5 GND (power) "Device Ground.", 6 FB (out) "Feedback Control Output. FB pulls up on the feedback node of the slave supply. Tracking is achieved by mirroring the current from TRACK into FB. A resistive divider connecting RAMPBUF and TRACK will force the output voltage (See Datasheet)", 7 ~{SDO} (oc) "Slave Supply Shutdown Output. S\D\O\ is an open-drain output that holds the shutdown (RUN/SS) pin of the slave supply low until the VCC pin is pulled above 2.5V, and the ON pin is pulled above 1.23V, or RAMP is above 200mV. (See Datasheet)", 8 VCC (power) "Supply Voltage Input. Operating range is from 2.9V to 5.5V. An undervoltage lockout asserts S\D\O\ until VCC > 2.5V. VCC should be bypassed to GND with a 0.1uF capacitor.", 9 EP (power) "Exposed pad may be left open or connected to device ground."